# Altium footprint library 网络插座.PcbLib: 1 footprints
Each footprint in its own frame and in the unit in brackets; x right, y up, seen from the top. Pads: shape width x height; smd on the part's side, far side on the other; paste and mask are expansions set on the pad; w line width, h text height; cw(c..) or ccw(c..) is an arc to the next point about the centre after c.
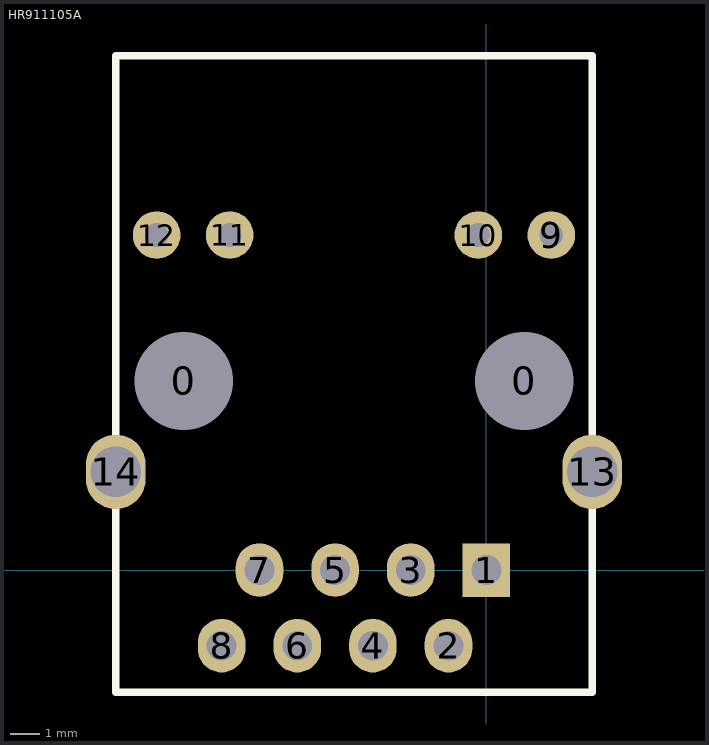
[diagram p0: the footprint, top view; thin cyan lines are the x and y axes]

## HR911105A [mm]
pads (16):
  round 3.2 hole 3.3: 0(-10.16,6.35) 0(1.27,6.35)
  rect 1.6x1.8 hole 1: 1(0,0)
  oval 1.6x1.8 hole 1: 2(-1.27,-2.54) 3(-2.54,0) 4(-3.81,-2.54) 5(-5.08,0) 6(-6.35,-2.54) 7(-7.62,0) 8(-8.89,-2.54)
  round 1.6 hole 0.8: 9(2.18,11.25) 10(-0.27,11.25) 11(-8.62,11.25) 12(-11.07,11.25)
  oval 2x2.5 hole 1.7: 13(3.555,3.3) 14(-12.445,3.3)
Top Overlay:
  lines w0.254: 3.555,14.4 3.555,-4.1 ; -12.445,-4.1 3.555,-4.1 ; -12.445,-4.1 -12.445,14.4 -12.445,17.27 ; -12.445,-4.1 -12.445,17.27 ; -12.445,17.27 3.555,17.27 3.555,-4.1
3D body "HR911105A.STEP": height 2.53, standoff -13.97, extent -12.324,-4.223 3.556,17.177